# Altium schematic symbol library SS510B.SchLib: 1 symbol
Pins are listed as number, name and electrical type; pins without a type are passive.

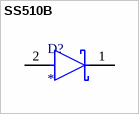
[diagram p0: symbol SS510B]

## SS510B
designator D?
100uA@100V 100V Single 850mV@5A 5A SMB(DO-214AA) Schottky Barrier Diodes (SBD) ROHS
footprint SMB
pins: 1 C, 2 A